# Altium footprint library CBC3225T330KR.PcbLib: 1 footprints
Each footprint in its own frame and in the unit in brackets; x right, y up, seen from the top. Pads: shape width x height; smd on the part's side, far side on the other; paste and mask are expansions set on the pad; w line width, h text height; cw(c..) or ccw(c..) is an arc to the next point about the centre after c.
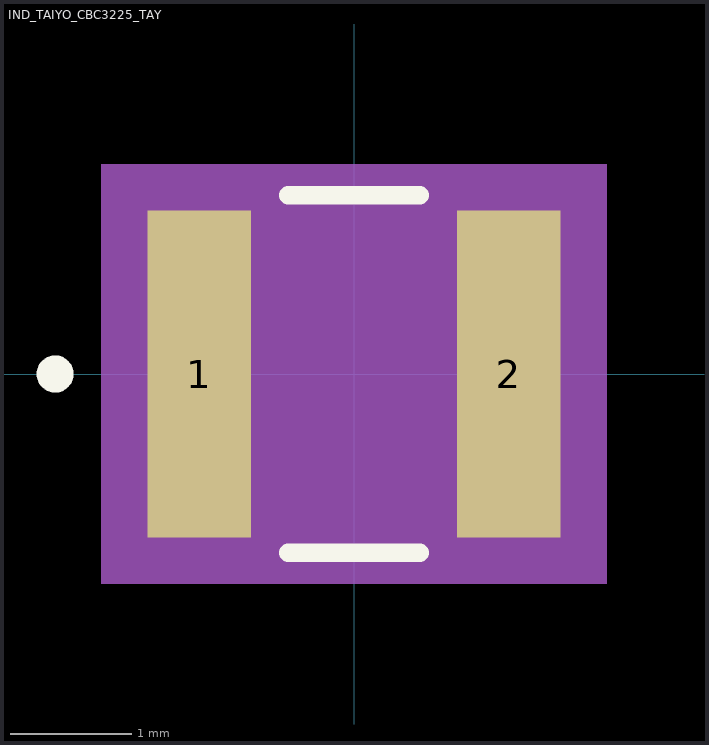
[diagram p0: the footprint, top view; thin cyan lines are the x and y axes]

## IND_TAIYO_CBC3225_TAY [mil]
pads (2):
  rect 33.5x106 smd paste+0 mask+0: 1(-50.25,0) 2(50.25,0)
Top Overlay:
  circle w6: c-97,0 r3
  lines w6: -21.39,-58 21.39,-58 ; -21.39,58 21.39,58
Mechanical 5:
  region: 82,-68 -82,-68 -82,68 82,68
Mechanical 13:
  circle w0: c-65,0 r3
  lines w1: -68,-53 68,-53 68,53 -68,53 -68,-53
Mechanical 15:
  region: -78,-63 -78,63 78,63 78,-63
  lines w6: -78,-63 -78,63 ; -78,-63 -78,-63 ; -78,-63 -78,-63 ; -78,-63 78,-63 ; -78,63 -78,63 ; -78,63 -78,63 ; -78,63 78,63 ; 78,-63 78,63 ; 78,-63 78,-63 ; 78,-63 78,-63 ; 78,63 78,63 ; 78,63 78,63
3D body "IND_TAIYO_CBC3225_TAY.step": height 106.1, standoff -0.12, extent -67.99,-53.11 67.99,53.11